# EAGLE library part CLT-110-02-XX-D-BE-A (library samtec)
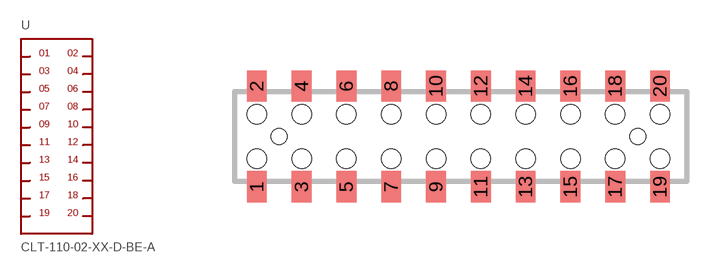
[diagram p2: symbol with the pads of CLT-110-02-XX-D-BE-A; footprint CLT-110-02-XX-D-BE-A]

Designator prefix -

## CLT-110-02-XX-D-BE-A  [CLT-110-02-XX-D-BE-A]
1  1
2  2
3  3
4  4
5  5
6  6
7  7
8  8
9  9
10  10
11  11
12  12
13  13
14  14
15  15
16  16
17  17
18  18
19  19
20  20

## Footprint CLT-110-02-XX-D-BE-A (pad centres in mm)
PCB Matrix Packages
smd 0.889 x 1.397: 1 -9,-2.25; 2 -9,2.25; 3 -7,-2.25; 4 -7,2.25; 5 -5,-2.25; 6 -5,2.25; 7 -3,-2.25; 8 -3,2.25; 9 -1,-2.25; 10 -1,2.25; 11 1,-2.25; 12 1,2.25; 13 3,-2.25; 14 3,2.25; 15 5,-2.25; 16 5,2.25; 17 7,-2.25; 18 7,2.25; 19 9,-2.25; 20 9,2.25
hole 0.711 at 8,0
hole 0.711 at -8,0
hole 0.864 at -9,1
hole 0.864 at -9,-1
hole 0.864 at -7,-1
hole 0.864 at -7,1
hole 0.864 at -5,-1
hole 0.864 at -5,1
hole 0.864 at -3,-1
hole 0.864 at -3,1
hole 0.864 at -1,-1
hole 0.864 at -1,1
hole 0.864 at 1,-1
hole 0.864 at 1,1
hole 0.864 at 3,-1
hole 0.864 at 3,1
hole 0.864 at 5,-1
hole 0.864 at 5,1
hole 0.864 at 7,-1
hole 0.864 at 7,1
hole 0.864 at 9,-1
hole 0.864 at 9,1